# Altium schematic symbol library XC6227C_5P.SchLib: 1 symbol
Pins are listed as number, name and electrical type; pins without a type are passive.

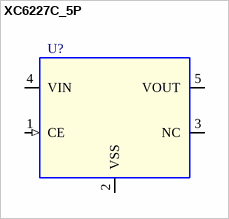
[diagram p0: symbol XC6227C_5P]

## XC6227C_5P
designator U?
IC VREG LDO  3.3V 0.7A 1.7-6.0V SOT-89-5
pins: 1 CE (in), 2 VSS (power), 3 NC, 4 VIN (power), 5 VOUT (power)